# EAGLE library part ELR100-UL-00 (library eWBM)
eWBM eLR100-UL-00 LoRaWAN Module based on MS500 SoC and SX1276MB1LAS Transceiver
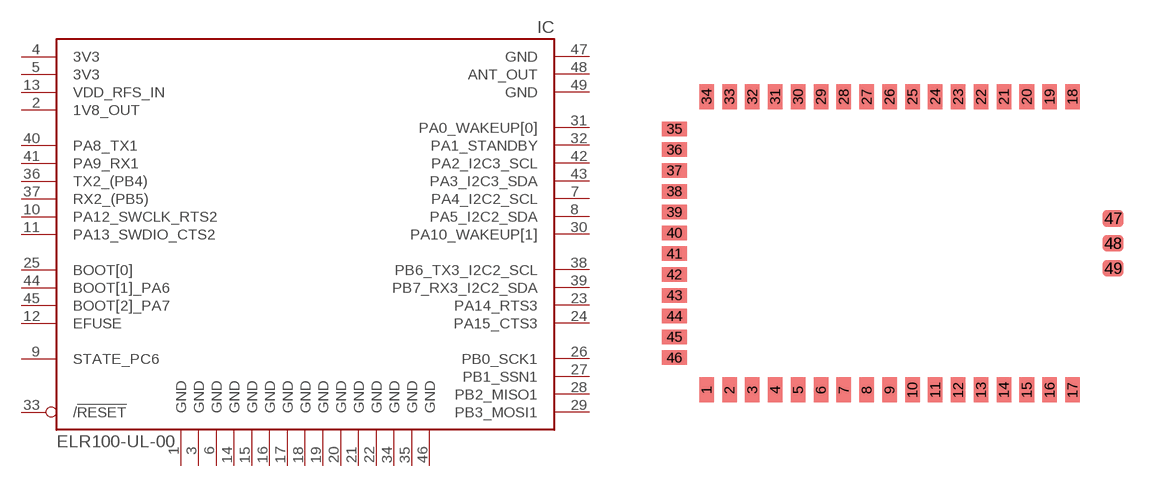
[diagram p2: symbol with the pads of LGA_49_23X16; footprint LGA_49_23X16]

Designator prefix IC

## ELR100-UL-00  [LGA_49_23X16]
1  GND  pwr
2  1V8_OUT  pwr
3  GND  pwr
4  3V3  pwr
5  3V3  pwr
6  GND  pwr
7  PA4_I2C2_SCL
8  PA5_I2C2_SDA
9  STATE_PC6  out
10  PA12_SWCLK_RTS2
11  PA13_SWDIO_CTS2
12  EFUSE  pwr
13  VDD_RFS_IN  pwr
14  GND  pwr
15  GND  pwr
16  GND  pwr
17  GND  pwr
18  GND  pwr
19  GND  pwr
20  GND  pwr
21  GND  pwr
22  GND  pwr
23  PA14_RTS3
24  PA15_CTS3
25  BOOT[0]  in
26  PB0_SCK1
27  PB1_SSN1
28  PB2_MISO1
29  PB3_MOSI1
30  PA10_WAKEUP[1]
31  PA0_WAKEUP[0]
32  PA1_STANDBY
33  /!RESET  in
34  GND  pwr
35  GND  pwr
36  TX2_(PB4)  out
37  RX2_(PB5)  in
38  PB6_TX3_I2C2_SCL
39  PB7_RX3_I2C2_SDA
40  PA8_TX1
41  PA9_RX1
42  PA2_I2C3_SCL
43  PA3_I2C3_SDA
44  BOOT[1]_PA6  in
45  BOOT[2]_PA7  in
46  GND  pwr
47  GND  pwr
48  ANT_OUT
49  GND  pwr

## Footprint LGA_49_23X16 (pad centres in mm)
smd 0.7 x 1.2: 1 -8.95,-7.05; 2 -7.85,-7.05; 3 -6.75,-7.05; 4 -5.65,-7.05; 5 -4.55,-7.05; 6 -3.45,-7.05; 7 -2.35,-7.05; 8 -1.25,-7.05; 9 -0.15,-7.05; 10 0.95,-7.05; 11 2.05,-7.05; 12 3.15,-7.05; 13 4.25,-7.05; 14 5.35,-7.05; 15 6.45,-7.05; 16 7.55,-7.05; 17 8.65,-7.05; 18 8.65,7.05; 19 7.55,7.05; 20 6.45,7.05; 21 5.35,7.05; 22 4.25,7.05; 23 3.15,7.05; 24 2.05,7.05; 25 0.95,7.05; 26 -0.15,7.05; 27 -1.25,7.05; 28 -2.35,7.05; 29 -3.45,7.05; 30 -4.55,7.05; 31 -5.65,7.05; 32 -6.75,7.05; 33 -7.85,7.05; 34 -8.95,7.05
smd 1.2 x 0.7: 35 -10.5,5.5; 36 -10.5,4.5; 37 -10.5,3.5; 38 -10.5,2.5; 39 -10.5,1.5; 40 -10.5,0.5; 41 -10.5,-0.5; 42 -10.5,-1.5; 43 -10.5,-2.5; 44 -10.5,-3.5; 45 -10.5,-4.5; 46 -10.5,-5.5
smd 1 x 0.8: 47 10.6,1.2; 48 10.6,0; 49 10.6,-1.2